# Altium schematic symbol library JoyStick.SchLib: 14 symbols
Pins are listed as number, name and electrical type; pins without a type are passive.

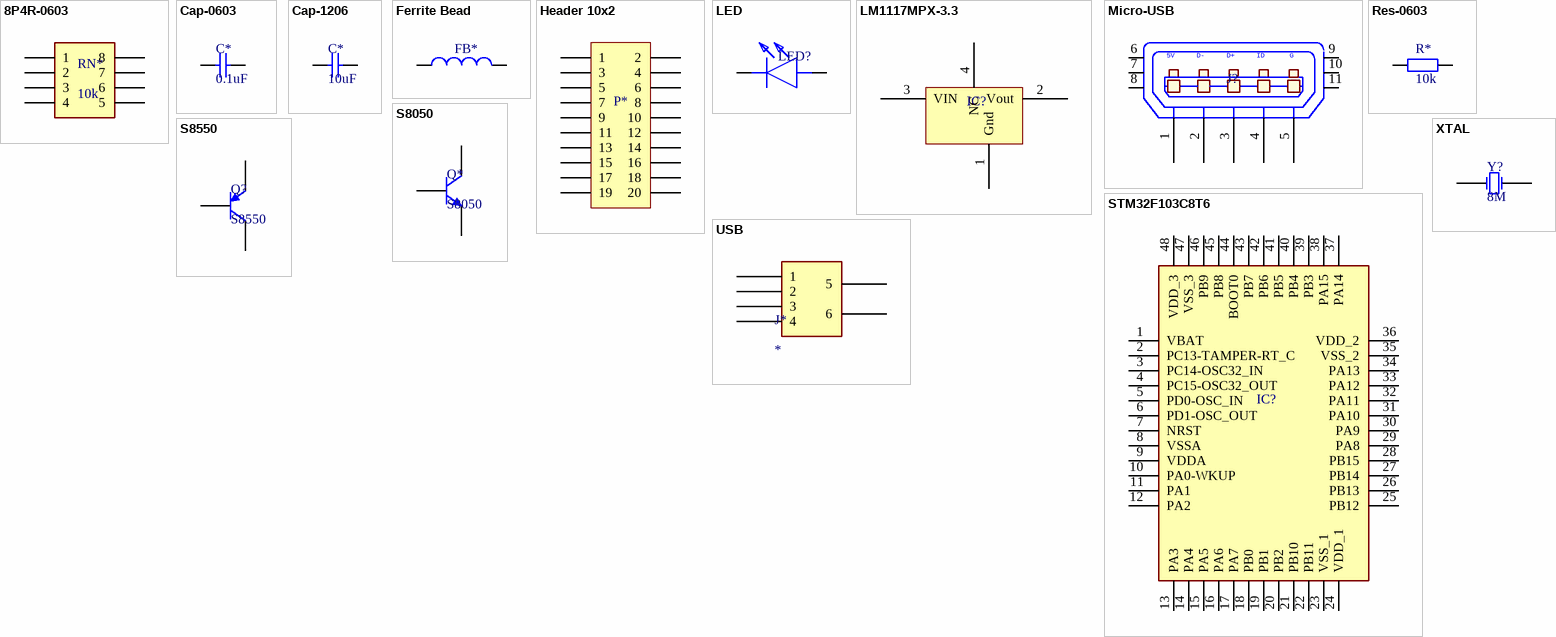
[diagram p0: symbols 8P4R-0603 to XTAL]

## 8P4R-0603
designator RN*, comment 10k
Resistor Network; Manufacturer_Name: Panasonic; Manufacturer_Part_Number: EXB-U38512JV; Datasheet Link: https://componentsearchengine.com/Datasheets/1/EXB-U38512JV.pdf; Height: 0.6mm; Mouser Part Number: 667-EXB-U38512JV; Mouser Price/Stock: https://www.mouser.com/Search/Refine.aspx?Keyword=667-EXB-U38512JV
footprint 8P4R-0603 (8P4R 1.6mmx0.8mm 排阻)
pins: 1, 2, 3, 4, 5, 6, 7, 8

## Cap-0603
designator C*, comment 0.1uF
Capacitance
footprint CAP-0603 (电容 1.6mmx0.8mm)
pins: 1, 2

## Cap-1206
designator C*, comment 10uF
Capacitance
footprint CAP-1206 (电容 3.2mmx1.6mm)
pins: 1, 2

## Ferrite Bead
designator FB*  (value not drawn)
Ferrite Bead
footprint Ferrite Bead-0603 (磁珠 1.6mmx0.8mm)
pins: 1, 2

## Header 10x2
designator P*  (value not drawn)
Header 10x2
footprint Header 10x2 (10x2 插针)
pins: 1, 2, 3, 4, 5, 6, 7, 8, 9, 10, 11, 12, 13, 14, 15, 16, 17, 18, 19, 20

## LED
designator LED?  (value not drawn)
LED; Manufacturer_Name: Wurth Elektronik; Manufacturer_Part_Number: 150060SS75020; Datasheet Link: https://componentsearchengine.com/Datasheets/2/150060SS75020.pdf; Height: 0.45mm; Mouser Part Number: 710-150060SS75020; Mouser Price/Stock: https://www.mouser.co.uk/ProductDetail/Wurth-Elektronik/150060SS75020?qs=d0WKAl%252BL4KYahr%2FibUhgAg%3D%3D
footprint LED-0603 (LED灯 1.6mmx0.8mm)
pins: 1 A, 2 K

## LM1117MPX-3.3
designator IC?  (value not drawn)
Integrated Circuit; Manufacturer_Name: Texas Instruments; Manufacturer_Part_Number: LM1117IMPX3.3/NOPB; Datasheet Link: http://www.ti.com/lit/ds/symlink/lm1117.pdf; Height: 1.8mm
footprint SOT-223 (LM1117-3.3 SOT 223)
pins: 1 Gnd, 2 Vout, 3 VIN, 4 NC "与2脚内部连接"

## Micro-USB
designator J?  (value not drawn)
Connector; Manufacturer_Name: Amphenol; Manufacturer_Part_Number: 10103593-0001LF; Datasheet Link: https://cdn.amphenol-icc.com/media/wysiwyg/files/drawing/10103593.pdf; Height: 2mm; Arrow Part Number: 10103593-0001LF; Arrow Price/Stock: https://www.arrow.com/en/products/10103593-0001lf/amphenol-fci; Mouser Part Number: 649-10103593-0001LF; Mouser Price/Stock: https://www.mouser.co.uk/ProductDetail/Amphenol-FCI/10103593-0001LF?qs=EnLMdcWnKAAYkpXwqGEfpw%3D%3D
footprint Micro-USB (Micro USB 牛角无卷边母头)
pins: 1 P1, 2 P2, 3 P3, 4 P4, 5 P5, 6 SHLD1, 7 SHLD2, 8 SHLD3, 9 SHLD4, 10 SHLD5, 11 SHLD6
text: 5V; D-; D+; ID; G

## Res-0603
designator R*, comment 10k
Resistor
footprint Res-0603 (电阻 1.6mmx0.8mm)
pins: 1, 2

## S8050
designator Q*
NPN
footprint SOT-23 (三极管 SOT-23)
pins: 1 B, 2 E, 3 C

## S8550
designator Q?
PNP; Manufacturer_Name: Galaxy; Manufacturer_Part_Number: S8050G; Datasheet Link: http://www.gmesemi.com/KUpload/product/TR/S8050%20SOT-23.pdf; Height: 1.1mm
footprint SOT-23 (三极管 SOT-23)
pins: 1 B, 2 E, 3 C

## STM32F103C8T6
designator IC?  (value not drawn)
Integrated Circuit; Manufacturer_Name: STMicroelectronics; Manufacturer_Part_Number: STM32F103C8T6TR; Datasheet Link: http://media.digikey.com/pdf/Data%20Sheets/ST%20Microelectronics%20PDFS/STM32F103x8,B.pdf; Height: 1.6mm; Arrow Part Number: STM32F103C8T6TR; Arrow Price/Stock: https://www.arrow.com/en/products/stm32f103c8t6tr/stmicroelectronics; Mouser Part Number: 511-STM32F103C8T6TR; Mouser Price/Stock: https://www.mouser.co.uk/ProductDetail/STMicroelectronics/STM32F103C8T6TR?qs=5HwTSiuA5HDxFj62n06yag%3D%3D
footprint LQFP48 (STM32F103C8T6)
pins: 1 VBAT, 2 PC13-TAMPER-RT_C, 3 PC14-OSC32_IN, 4 PC15-OSC32_OUT, 5 PD0-OSC_IN, 6 PD1-OSC_OUT, 7 NRST, 8 VSSA, 9 VDDA, 10 PA0-WKUP, 11 PA1, 12 PA2, 13 PA3, 14 PA4, 15 PA5, 16 PA6, 17 PA7, 18 PB0, 19 PB1, 20 PB2, 21 PB10, 22 PB11, 23 VSS_1, 24 VDD_1, 25 PB12, 26 PB13, 27 PB14, 28 PB15, 29 PA8, 30 PA9, 31 PA10, 32 PA11, 33 PA12, 34 PA13, 35 VSS_2, 36 VDD_2, 37 PA14, 38 PA15, 39 PB3, 40 PB4, 41 PB5, 42 PB6, 43 PB7, 44 BOOT0, 45 PB8, 46 PB9, 47 VSS_3, 48 VDD_3

## USB
designator J*
USB-A
footprint USB (USB-A)
pins: 1, 2, 3, 4, 5, 6

## XTAL
designator Y?, comment 8M
Crystal Oscillator; Manufacturer_Name: ZHUHAI MONEC ELEC; Manufacturer_Part_Number: ESB16.0000F12M25F; Datasheet Link: https://datasheet.lcsc.com/szlcsc/1901101104_ZHUHAI-MONEC-ELEC-ESB16-0000F12M25F_C353715.pdf; Height: 4.2mm
footprint 49-SMD (49SMD 无源晶振)
pins: 1 OSC1, 2 OSC2